# EAGLE library part USB4105-GF-A (library components)
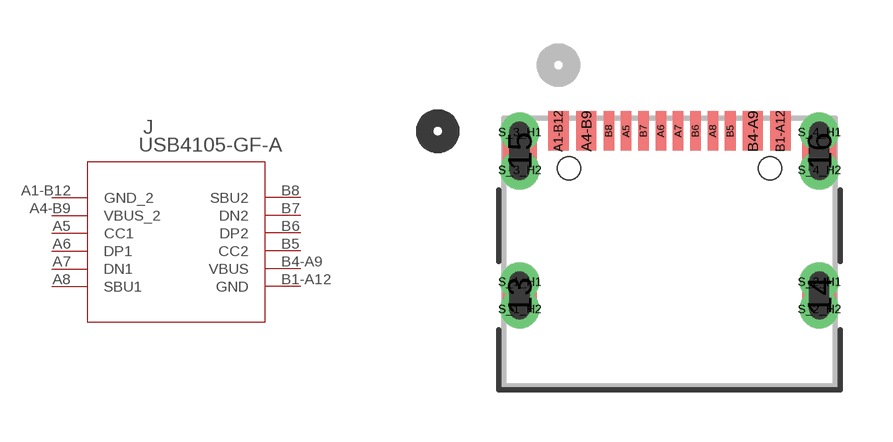
[diagram p1: symbol with the pads of USB4105_GCT; footprint USB4105_GCT]

Designator prefix J

## USB4105-GF-A (COPYRIGHT: Copyright (C) 2023 Ultra Librarian. All rights reserved.; DIGIKEY_PART_NUMBER_1: 2073-USB4105-GF-ACT-ND; DIGIKEY_PART_NUMBER_2: 2073-USB4105-GF-ADKR-ND; DIGIKEY_PART_NUMBER_3: 2073-USB4105-GF-ATR-ND; MANUFACTURER_PART_NUMBER: USB4105-GF-A; MFR_NAME: Global Connector Technology)  [USB4105_GCT]
A1-B12  GND_2  pas
A4-B9  VBUS_2  pwr
A5  CC1
A6  DP1
A7  DN1
A8  SBU1
B1-A12  GND  pas
B4-A9  VBUS  pwr
B5  CC2
B6  DP2
B7  DN2
B8  SBU2

## Footprint USB4105_GCT (pad centres in mm)
smd 0.991 x 1.803: 13 -4.32,-1.269; 14 4.32,-1.269
smd 0.991 x 2.108: 15 -4.32,2.911; 16 4.32,2.911
smd 0.584 x 1.143: A1-B12 -3.2,3.486; A4-B9 -2.4,3.486; B1-A12 3.2,3.486; B4-A9 2.4,3.486
smd 0.305 x 1.143: A5 -1.25,3.486; A6 -0.25,3.486; A7 0.25,3.486; A8 1.25,3.486; B5 1.75,3.486; B6 0.75,3.486; B7 -0.75,3.486; B8 -1.75,3.486
drill 0.61 pad 0.61: S_1_H1 -4.318,-0.864; S_1_H2 -4.318,-1.651; S_2_H1 4.318,-0.864; S_2_H2 4.318,-1.651; S_3_H1 -4.318,3.454; S_3_H2 -4.318,2.362; S_4_H1 4.318,3.454; S_4_H2 4.318,2.362
hole 0.66 at 2.896,2.413
hole 0.66 at -2.896,2.413